# Altium footprint library TerminalBlock_Phoenix.PcbLib: 126 footprints (part 5 of 8)
Each footprint in its own frame and in the unit in brackets; x right, y up, seen from the top. Pads: shape width x height; smd on the part's side, far side on the other; paste and mask are expansions set on the pad; w line width, h text height; cw(c..) or ccw(c..) is an arc to the next point about the centre after c.
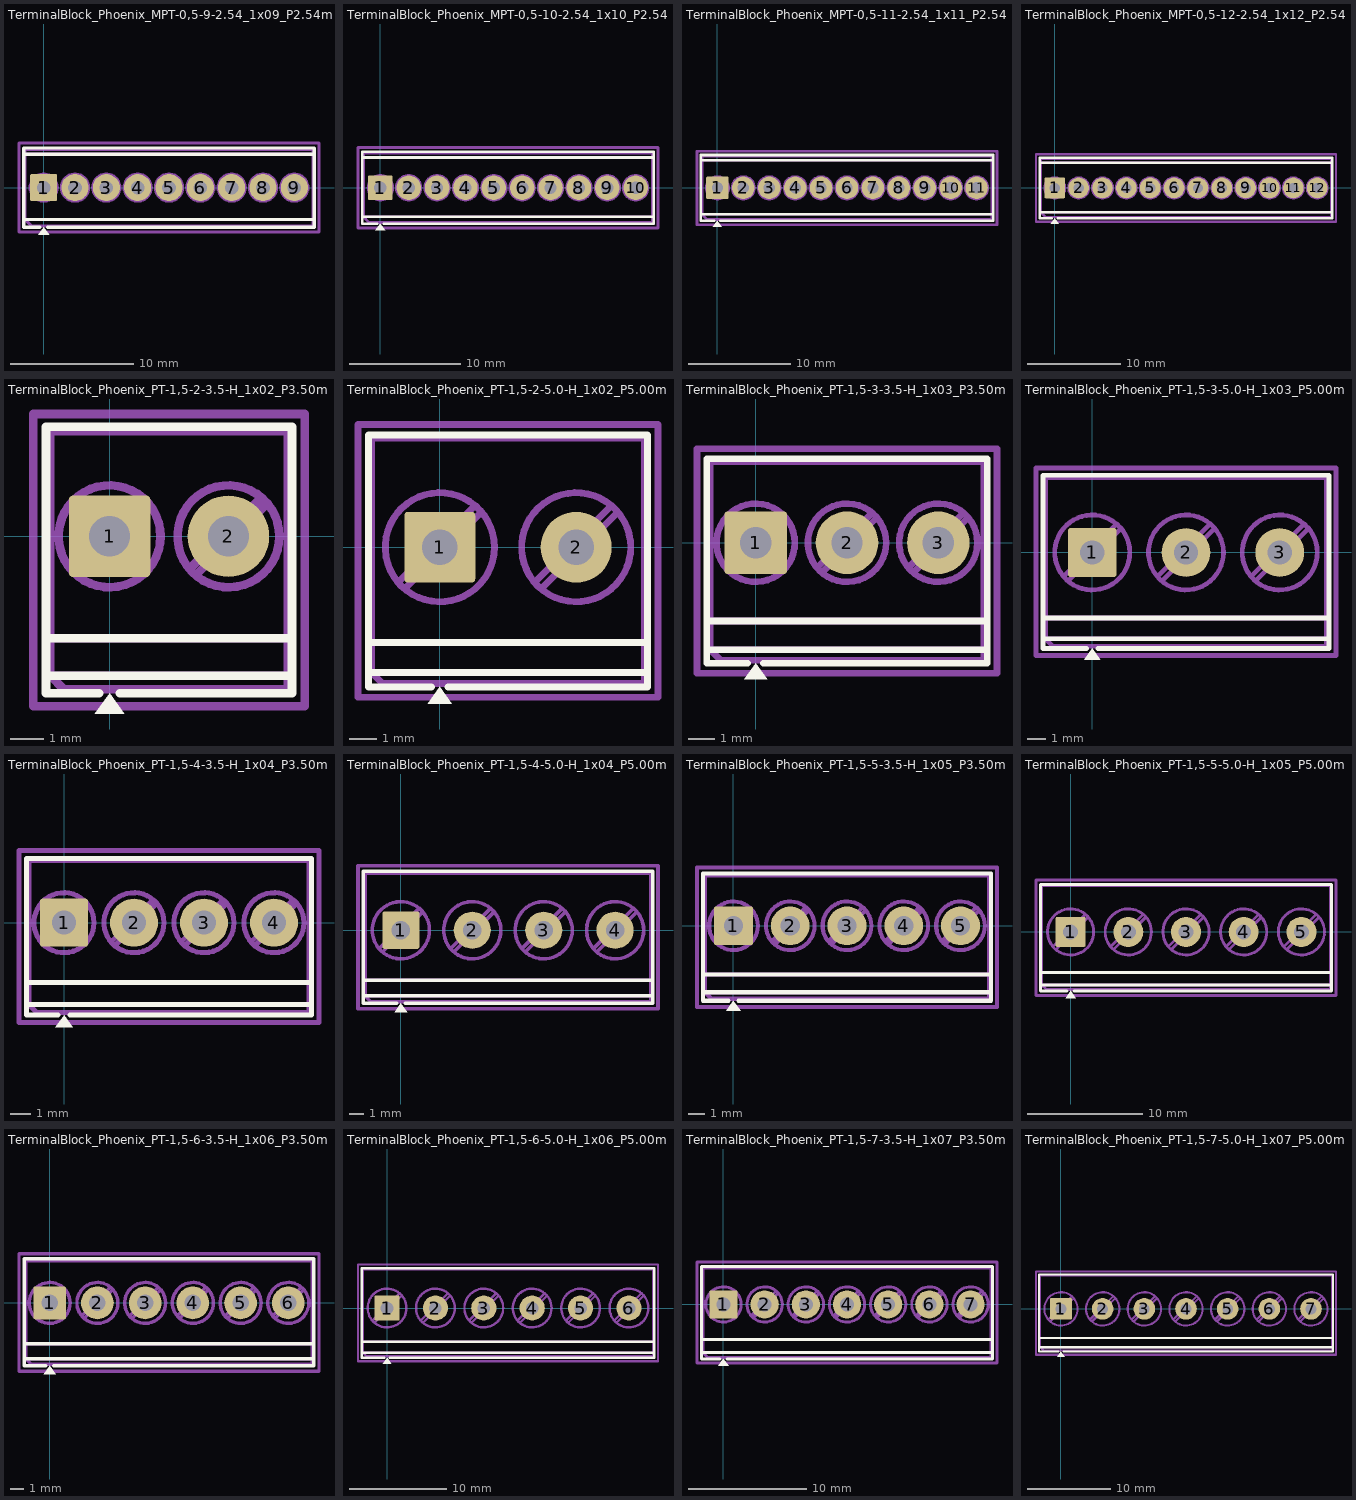
[diagram p4: the footprints below, top view; thin cyan lines are the x and y axes]

## TerminalBlock_Phoenix_MPT-0,5-9-2.54_1x09_P2.54mm_Horizontal [mm]
pads (9):
  rrect11% 2.2x2.2 hole 1.1: 1(0,0)
  round 2.2 hole 1.1: 2(2.54,0) 3(5.08,0) 4(7.62,0) 5(10.16,0) 6(12.7,0) 7(15.24,0) 8(17.78,0) 9(20.32,0)
F.SilkS:
  region: 0.44,-3.83 -0.44,-3.83 0,-3.22
  lines w0.254: -1.62,-2.6 21.94,-2.6 ; -1.62,2.7 21.94,2.7 ; -0.3,-3.22 -1.62,-3.22 -1.62,3.22 21.94,3.22 21.94,-3.22 0.3,-3.22
F.Fab:
  circle w0.254: c0,0 r1.1
  circle w0.254: c2.54,0 r1.1
  circle w0.254: c5.08,0 r1.1
  circle w0.254: c7.62,0 r1.1
  circle w0.254: c10.16,0 r1.1
  circle w0.254: c12.7,0 r1.1
  circle w0.254: c15.24,0 r1.1
  circle w0.254: c17.78,0 r1.1
  circle w0.254: c20.32,0 r1.1
  lines w0.254: -1.5,2.7 21.82,2.7 ; -0.834,-0.7 0.7,0.834 ; -0.7,-0.834 0.834,0.7 ; 1.706,-0.7 3.24,0.834 ; 1.84,-0.834 3.374,0.7 ; 4.246,-0.7 5.78,0.834 ; 4.38,-0.834 5.914,0.7 ; 6.786,-0.7 8.32,0.834 ; 6.92,-0.834 8.454,0.7 ; 9.326,-0.7 10.86,0.834 ; 9.46,-0.834 10.994,0.7 ; 11.866,-0.7 13.4,0.834 ; 12,-0.834 13.534,0.7 ; 14.406,-0.7 15.94,0.834 ; 14.54,-0.834 16.074,0.7 ; 16.946,-0.7 18.48,0.834 ; 17.08,-0.834 18.614,0.7 ; 19.486,-0.7 21.02,0.834 ; 19.62,-0.834 21.154,0.7 ; 21.82,-2.6 -1.5,-2.6 ; -1.5,-2.6 -1.5,3.1 21.82,3.1 21.82,-3.1 -1,-3.1 -1.5,-2.6
  text "'.Designator'" at 6.113,-2.84 h1
F.CrtYd:
  lines w0.254: -2,-3.6 -2,3.6 22.32,3.6 22.32,-3.6 -2,-3.6

## TerminalBlock_Phoenix_MPT-0,5-10-2.54_1x10_P2.54mm_Horizontal [mm]
pads (10):
  rrect11% 2.2x2.2 hole 1.1: 1(0,0)
  round 2.2 hole 1.1: 2(2.54,0) 3(5.08,0) 4(7.62,0) 5(10.16,0) 6(12.7,0) 7(15.24,0) 8(17.78,0) 9(20.32,0) 10(22.86,0)
F.SilkS:
  region: 0.44,-3.83 -0.44,-3.83 0,-3.22
  lines w0.254: -1.62,-2.6 24.48,-2.6 ; -1.62,2.7 24.48,2.7 ; -0.3,-3.22 -1.62,-3.22 -1.62,3.22 24.48,3.22 24.48,-3.22 0.3,-3.22
F.Fab:
  circle w0.254: c0,0 r1.1
  circle w0.254: c2.54,0 r1.1
  circle w0.254: c5.08,0 r1.1
  circle w0.254: c7.62,0 r1.1
  circle w0.254: c10.16,0 r1.1
  circle w0.254: c12.7,0 r1.1
  circle w0.254: c15.24,0 r1.1
  circle w0.254: c17.78,0 r1.1
  circle w0.254: c20.32,0 r1.1
  circle w0.254: c22.86,0 r1.1
  lines w0.254: -1.5,2.7 24.36,2.7 ; -0.834,-0.7 0.7,0.834 ; -0.7,-0.834 0.834,0.7 ; 1.706,-0.7 3.24,0.834 ; 1.84,-0.834 3.374,0.7 ; 4.246,-0.7 5.78,0.834 ; 4.38,-0.834 5.914,0.7 ; 6.786,-0.7 8.32,0.834 ; 6.92,-0.834 8.454,0.7 ; 9.326,-0.7 10.86,0.834 ; 9.46,-0.834 10.994,0.7 ; 11.866,-0.7 13.4,0.834 ; 12,-0.834 13.534,0.7 ; 14.406,-0.7 15.94,0.834 ; 14.54,-0.834 16.074,0.7 ; 16.946,-0.7 18.48,0.834 ; 17.08,-0.834 18.614,0.7 ; 19.486,-0.7 21.02,0.834 ; 19.62,-0.834 21.154,0.7 ; 22.026,-0.7 23.56,0.834 ; 22.16,-0.834 23.694,0.7 ; 24.36,-2.6 -1.5,-2.6 ; -1.5,-2.6 -1.5,3.1 24.36,3.1 24.36,-3.1 -1,-3.1 -1.5,-2.6
  text "'.Designator'" at 7.383,-2.84 h1
F.CrtYd:
  lines w0.254: -2,-3.6 -2,3.6 24.86,3.6 24.86,-3.6 -2,-3.6

## TerminalBlock_Phoenix_MPT-0,5-11-2.54_1x11_P2.54mm_Horizontal [mm]
pads (11):
  rrect11% 2.2x2.2 hole 1.1: 1(0,0)
  round 2.2 hole 1.1: 2(2.54,0) 3(5.08,0) 4(7.62,0) 5(10.16,0) 6(12.7,0) 7(15.24,0) 8(17.78,0) 9(20.32,0) 10(22.86,0) 11(25.4,0)
F.SilkS:
  region: 0.44,-3.83 -0.44,-3.83 0,-3.22
  lines w0.254: -1.62,-2.6 27.02,-2.6 ; -1.62,2.7 27.02,2.7 ; -0.3,-3.22 -1.62,-3.22 -1.62,3.22 27.02,3.22 27.02,-3.22 0.3,-3.22
F.Fab:
  circle w0.254: c0,0 r1.1
  circle w0.254: c2.54,0 r1.1
  circle w0.254: c5.08,0 r1.1
  circle w0.254: c7.62,0 r1.1
  circle w0.254: c10.16,0 r1.1
  circle w0.254: c12.7,0 r1.1
  circle w0.254: c15.24,0 r1.1
  circle w0.254: c17.78,0 r1.1
  circle w0.254: c20.32,0 r1.1
  circle w0.254: c22.86,0 r1.1
  circle w0.254: c25.4,0 r1.1
  lines w0.254: -1.5,2.7 26.9,2.7 ; -0.834,-0.7 0.7,0.834 ; -0.7,-0.834 0.834,0.7 ; 1.706,-0.7 3.24,0.834 ; 1.84,-0.834 3.374,0.7 ; 4.246,-0.7 5.78,0.834 ; 4.38,-0.834 5.914,0.7 ; 6.786,-0.7 8.32,0.834 ; 6.92,-0.834 8.454,0.7 ; 9.326,-0.7 10.86,0.834 ; 9.46,-0.834 10.994,0.7 ; 11.866,-0.7 13.4,0.834 ; 12,-0.834 13.534,0.7 ; 14.406,-0.7 15.94,0.834 ; 14.54,-0.834 16.074,0.7 ; 16.946,-0.7 18.48,0.834 ; 17.08,-0.834 18.614,0.7 ; 19.486,-0.7 21.02,0.834 ; 19.62,-0.834 21.154,0.7 ; 22.026,-0.7 23.56,0.834 ; 22.16,-0.834 23.694,0.7 ; 24.566,-0.7 26.1,0.834 ; 24.7,-0.834 26.234,0.7 ; 26.9,-2.6 -1.5,-2.6 ; -1.5,-2.6 -1.5,3.1 26.9,3.1 26.9,-3.1 -1,-3.1 -1.5,-2.6
  text "'.Designator'" at 8.653,-2.84 h1
F.CrtYd:
  lines w0.254: -2,-3.6 -2,3.6 27.4,3.6 27.4,-3.6 -2,-3.6

## TerminalBlock_Phoenix_MPT-0,5-12-2.54_1x12_P2.54mm_Horizontal [mm]
pads (12):
  rrect11% 2.2x2.2 hole 1.1: 1(0,0)
  round 2.2 hole 1.1: 2(2.54,0) 3(5.08,0) 4(7.62,0) 5(10.16,0) 6(12.7,0) 7(15.24,0) 8(17.78,0) 9(20.32,0) 10(22.86,0) 11(25.4,0) 12(27.94,0)
F.SilkS:
  region: 0.44,-3.83 -0.44,-3.83 0,-3.22
  lines w0.254: -1.62,-2.6 29.56,-2.6 ; -1.62,2.7 29.56,2.7 ; -0.3,-3.22 -1.62,-3.22 -1.62,3.22 29.56,3.22 29.56,-3.22 0.3,-3.22
F.Fab:
  circle w0.254: c0,0 r1.1
  circle w0.254: c2.54,0 r1.1
  circle w0.254: c5.08,0 r1.1
  circle w0.254: c7.62,0 r1.1
  circle w0.254: c10.16,0 r1.1
  circle w0.254: c12.7,0 r1.1
  circle w0.254: c15.24,0 r1.1
  circle w0.254: c17.78,0 r1.1
  circle w0.254: c20.32,0 r1.1
  circle w0.254: c22.86,0 r1.1
  circle w0.254: c25.4,0 r1.1
  circle w0.254: c27.94,0 r1.1
  lines w0.254: -1.5,2.7 29.44,2.7 ; -0.834,-0.7 0.7,0.834 ; -0.7,-0.834 0.834,0.7 ; 1.706,-0.7 3.24,0.834 ; 1.84,-0.834 3.374,0.7 ; 4.246,-0.7 5.78,0.834 ; 4.38,-0.834 5.914,0.7 ; 6.786,-0.7 8.32,0.834 ; 6.92,-0.834 8.454,0.7 ; 9.326,-0.7 10.86,0.834 ; 9.46,-0.834 10.994,0.7 ; 11.866,-0.7 13.4,0.834 ; 12,-0.834 13.534,0.7 ; 14.406,-0.7 15.94,0.834 ; 14.54,-0.834 16.074,0.7 ; 16.946,-0.7 18.48,0.834 ; 17.08,-0.834 18.614,0.7 ; 19.486,-0.7 21.02,0.834 ; 19.62,-0.834 21.154,0.7 ; 22.026,-0.7 23.56,0.834 ; 22.16,-0.834 23.694,0.7 ; 24.566,-0.7 26.1,0.834 ; 24.7,-0.834 26.234,0.7 ; 27.106,-0.7 28.64,0.834 ; 27.24,-0.834 28.774,0.7 ; 29.44,-2.6 -1.5,-2.6 ; -1.5,-2.6 -1.5,3.1 29.44,3.1 29.44,-3.1 -1,-3.1 -1.5,-2.6
  text "'.Designator'" at 9.923,-2.84 h1
F.CrtYd:
  lines w0.254: -2,-3.6 -2,3.6 29.94,3.6 29.94,-3.6 -2,-3.6

## TerminalBlock_Phoenix_PT-1,5-2-3.5-H_1x02_P3.50mm_Horizontal [mm]
pads (2):
  rrect10% 2.4x2.4 hole 1.2: 1(0,0)
  round 2.4 hole 1.2: 2(3.5,0)
F.SilkS:
  region: 0.44,-5.23 -0.44,-5.23 0,-4.62
  lines w0.254: -1.87,-4.1 5.37,-4.1 ; -1.87,-3 5.37,-3 ; -0.3,-4.62 -1.87,-4.62 -1.87,3.22 5.37,3.22 5.37,-4.62 0.3,-4.62
F.Fab:
  circle w0.254: c0,0 r1.5
  circle w0.254: c3.5,0 r1.5
  lines w0.254: -1.75,-3 5.25,-3 ; -1.138,-0.955 0.955,1.138 ; -0.955,-1.138 1.138,0.955 ; 2.362,-0.955 4.455,1.138 ; 2.545,-1.138 4.638,0.955 ; 5.25,-4.1 -1.75,-4.1 ; -1.75,-4.1 -1.75,3.1 5.25,3.1 5.25,-4.5 -1.35,-4.5 -1.75,-4.1
  text "'.Designator'" at -2.297,-3.24 h1
F.CrtYd:
  lines w0.254: -2.25,-5 -2.25,3.6 5.75,3.6 5.75,-5 -2.25,-5

## TerminalBlock_Phoenix_PT-1,5-2-5.0-H_1x02_P5.00mm_Horizontal [mm]
pads (2):
  rrect10% 2.6x2.6 hole 1.3: 1(0,0)
  round 2.6 hole 1.3: 2(5,0)
F.SilkS:
  region: 0.44,-5.73 -0.44,-5.73 0,-5.12
  lines w0.254: -2.62,-4.6 7.62,-4.6 ; -2.62,-3.5 7.62,-3.5 ; -0.3,-5.12 -2.62,-5.12 -2.62,4.12 7.62,4.12 7.62,-5.12 0.3,-5.12
F.Fab:
  circle w0.254: c0,0 r2
  circle w0.254: c5,0 r2
  lines w0.254: -2.5,-3.5 7.5,-3.5 ; -1.517,-1.273 1.273,1.517 ; -1.273,-1.517 1.517,1.273 ; 3.483,-1.273 6.273,1.517 ; 3.727,-1.517 6.517,1.273 ; 7.5,-4.6 -2.5,-4.6 ; -2.5,-4.6 -2.5,4 7.5,4 7.5,-5 -2.1,-5 -2.5,-4.6
  text "'.Designator'" at -1.547,-3.74 h1
F.CrtYd:
  lines w0.254: -3,-5.5 -3,4.5 8,4.5 8,-5.5 -3,-5.5

## TerminalBlock_Phoenix_PT-1,5-3-3.5-H_1x03_P3.50mm_Horizontal [mm]
pads (3):
  rrect10% 2.4x2.4 hole 1.2: 1(0,0)
  round 2.4 hole 1.2: 2(3.5,0) 3(7,0)
F.SilkS:
  region: 0.44,-5.23 -0.44,-5.23 0,-4.62
  lines w0.254: -1.87,-4.1 8.87,-4.1 ; -1.87,-3 8.87,-3 ; -0.3,-4.62 -1.87,-4.62 -1.87,3.22 8.87,3.22 8.87,-4.62 0.3,-4.62
F.Fab:
  circle w0.254: c0,0 r1.5
  circle w0.254: c3.5,0 r1.5
  circle w0.254: c7,0 r1.5
  lines w0.254: -1.75,-3 8.75,-3 ; -1.138,-0.955 0.955,1.138 ; -0.955,-1.138 1.138,0.955 ; 2.362,-0.955 4.455,1.138 ; 2.545,-1.138 4.638,0.955 ; 5.862,-0.955 7.955,1.138 ; 6.045,-1.138 8.138,0.955 ; 8.75,-4.1 -1.75,-4.1 ; -1.75,-4.1 -1.75,3.1 8.75,3.1 8.75,-4.5 -1.35,-4.5 -1.75,-4.1
  text "'.Designator'" at -0.547,-3.24 h1
F.CrtYd:
  lines w0.254: -2.25,-5 -2.25,3.6 9.25,3.6 9.25,-5 -2.25,-5

## TerminalBlock_Phoenix_PT-1,5-3-5.0-H_1x03_P5.00mm_Horizontal [mm]
pads (3):
  rrect10% 2.6x2.6 hole 1.3: 1(0,0)
  round 2.6 hole 1.3: 2(5,0) 3(10,0)
F.SilkS:
  region: 0.44,-5.73 -0.44,-5.73 0,-5.12
  lines w0.254: -2.62,-4.6 12.62,-4.6 ; -2.62,-3.5 12.62,-3.5 ; -0.3,-5.12 -2.62,-5.12 -2.62,4.12 12.62,4.12 12.62,-5.12 0.3,-5.12
F.Fab:
  circle w0.254: c0,0 r2
  circle w0.254: c5,0 r2
  circle w0.254: c10,0 r2
  lines w0.254: -2.5,-3.5 12.5,-3.5 ; -1.517,-1.273 1.273,1.517 ; -1.273,-1.517 1.517,1.273 ; 3.483,-1.273 6.273,1.517 ; 3.727,-1.517 6.517,1.273 ; 8.483,-1.273 11.273,1.517 ; 8.727,-1.517 11.517,1.273 ; 12.5,-4.6 -2.5,-4.6 ; -2.5,-4.6 -2.5,4 12.5,4 12.5,-5 -2.1,-5 -2.5,-4.6
  text "'.Designator'" at 0.953,-3.74 h1
F.CrtYd:
  lines w0.254: -3,-5.5 -3,4.5 13,4.5 13,-5.5 -3,-5.5

## TerminalBlock_Phoenix_PT-1,5-4-3.5-H_1x04_P3.50mm_Horizontal [mm]
pads (4):
  rrect10% 2.4x2.4 hole 1.2: 1(0,0)
  round 2.4 hole 1.2: 2(3.5,0) 3(7,0) 4(10.5,0)
F.SilkS:
  region: 0.44,-5.23 -0.44,-5.23 0,-4.62
  lines w0.254: -1.87,-4.1 12.37,-4.1 ; -1.87,-3 12.37,-3 ; -0.3,-4.62 -1.87,-4.62 -1.87,3.22 12.37,3.22 12.37,-4.62 0.3,-4.62
F.Fab:
  circle w0.254: c0,0 r1.5
  circle w0.254: c3.5,0 r1.5
  circle w0.254: c7,0 r1.5
  circle w0.254: c10.5,0 r1.5
  lines w0.254: -1.75,-3 12.25,-3 ; -1.138,-0.955 0.955,1.138 ; -0.955,-1.138 1.138,0.955 ; 2.362,-0.955 4.455,1.138 ; 2.545,-1.138 4.638,0.955 ; 5.862,-0.955 7.955,1.138 ; 6.045,-1.138 8.138,0.955 ; 9.362,-0.955 11.455,1.138 ; 9.545,-1.138 11.638,0.955 ; 12.25,-4.1 -1.75,-4.1 ; -1.75,-4.1 -1.75,3.1 12.25,3.1 12.25,-4.5 -1.35,-4.5 -1.75,-4.1
  text "'.Designator'" at 1.203,-3.24 h1
F.CrtYd:
  lines w0.254: -2.25,-5 -2.25,3.6 12.75,3.6 12.75,-5 -2.25,-5

## TerminalBlock_Phoenix_PT-1,5-4-5.0-H_1x04_P5.00mm_Horizontal [mm]
pads (4):
  rrect10% 2.6x2.6 hole 1.3: 1(0,0)
  round 2.6 hole 1.3: 2(5,0) 3(10,0) 4(15,0)
F.SilkS:
  region: 0.44,-5.73 -0.44,-5.73 0,-5.12
  lines w0.254: -2.62,-4.6 17.62,-4.6 ; -2.62,-3.5 17.62,-3.5 ; -0.3,-5.12 -2.62,-5.12 -2.62,4.12 17.62,4.12 17.62,-5.12 0.3,-5.12
F.Fab:
  circle w0.254: c0,0 r2
  circle w0.254: c5,0 r2
  circle w0.254: c10,0 r2
  circle w0.254: c15,0 r2
  lines w0.254: -2.5,-3.5 17.5,-3.5 ; -1.517,-1.273 1.273,1.517 ; -1.273,-1.517 1.517,1.273 ; 3.483,-1.273 6.273,1.517 ; 3.727,-1.517 6.517,1.273 ; 8.483,-1.273 11.273,1.517 ; 8.727,-1.517 11.517,1.273 ; 13.483,-1.273 16.273,1.517 ; 13.727,-1.517 16.517,1.273 ; 17.5,-4.6 -2.5,-4.6 ; -2.5,-4.6 -2.5,4 17.5,4 17.5,-5 -2.1,-5 -2.5,-4.6
  text "'.Designator'" at 3.453,-3.74 h1
F.CrtYd:
  lines w0.254: -3,-5.5 -3,4.5 18,4.5 18,-5.5 -3,-5.5

## TerminalBlock_Phoenix_PT-1,5-5-3.5-H_1x05_P3.50mm_Horizontal [mm]
pads (5):
  rrect10% 2.4x2.4 hole 1.2: 1(0,0)
  round 2.4 hole 1.2: 2(3.5,0) 3(7,0) 4(10.5,0) 5(14,0)
F.SilkS:
  region: 0.44,-5.23 -0.44,-5.23 0,-4.62
  lines w0.254: -1.87,-4.1 15.87,-4.1 ; -1.87,-3 15.87,-3 ; -0.3,-4.62 -1.87,-4.62 -1.87,3.22 15.87,3.22 15.87,-4.62 0.3,-4.62
F.Fab:
  circle w0.254: c0,0 r1.5
  circle w0.254: c3.5,0 r1.5
  circle w0.254: c7,0 r1.5
  circle w0.254: c10.5,0 r1.5
  circle w0.254: c14,0 r1.5
  lines w0.254: -1.75,-3 15.75,-3 ; -1.138,-0.955 0.955,1.138 ; -0.955,-1.138 1.138,0.955 ; 2.362,-0.955 4.455,1.138 ; 2.545,-1.138 4.638,0.955 ; 5.862,-0.955 7.955,1.138 ; 6.045,-1.138 8.138,0.955 ; 9.362,-0.955 11.455,1.138 ; 9.545,-1.138 11.638,0.955 ; 12.862,-0.955 14.955,1.138 ; 13.045,-1.138 15.138,0.955 ; 15.75,-4.1 -1.75,-4.1 ; -1.75,-4.1 -1.75,3.1 15.75,3.1 15.75,-4.5 -1.35,-4.5 -1.75,-4.1
  text "'.Designator'" at 2.953,-3.24 h1
F.CrtYd:
  lines w0.254: -2.25,-5 -2.25,3.6 16.25,3.6 16.25,-5 -2.25,-5

## TerminalBlock_Phoenix_PT-1,5-5-5.0-H_1x05_P5.00mm_Horizontal [mm]
pads (5):
  rrect10% 2.6x2.6 hole 1.3: 1(0,0)
  round 2.6 hole 1.3: 2(5,0) 3(10,0) 4(15,0) 5(20,0)
F.SilkS:
  region: 0.44,-5.73 -0.44,-5.73 0,-5.12
  lines w0.254: -2.62,-4.6 22.62,-4.6 ; -2.62,-3.5 22.62,-3.5 ; -0.3,-5.12 -2.62,-5.12 -2.62,4.12 22.62,4.12 22.62,-5.12 0.3,-5.12
F.Fab:
  circle w0.254: c0,0 r2
  circle w0.254: c5,0 r2
  circle w0.254: c10,0 r2
  circle w0.254: c15,0 r2
  circle w0.254: c20,0 r2
  lines w0.254: -2.5,-3.5 22.5,-3.5 ; -1.517,-1.273 1.273,1.517 ; -1.273,-1.517 1.517,1.273 ; 3.483,-1.273 6.273,1.517 ; 3.727,-1.517 6.517,1.273 ; 8.483,-1.273 11.273,1.517 ; 8.727,-1.517 11.517,1.273 ; 13.483,-1.273 16.273,1.517 ; 13.727,-1.517 16.517,1.273 ; 18.483,-1.273 21.273,1.517 ; 18.727,-1.517 21.517,1.273 ; 22.5,-4.6 -2.5,-4.6 ; -2.5,-4.6 -2.5,4 22.5,4 22.5,-5 -2.1,-5 -2.5,-4.6
  text "'.Designator'" at 5.953,-3.74 h1
F.CrtYd:
  lines w0.254: -3,-5.5 -3,4.5 23,4.5 23,-5.5 -3,-5.5

## TerminalBlock_Phoenix_PT-1,5-6-3.5-H_1x06_P3.50mm_Horizontal [mm]
pads (6):
  rrect10% 2.4x2.4 hole 1.2: 1(0,0)
  round 2.4 hole 1.2: 2(3.5,0) 3(7,0) 4(10.5,0) 5(14,0) 6(17.5,0)
F.SilkS:
  region: 0.44,-5.23 -0.44,-5.23 0,-4.62
  lines w0.254: -1.87,-4.1 19.37,-4.1 ; -1.87,-3 19.37,-3 ; -0.3,-4.62 -1.87,-4.62 -1.87,3.22 19.37,3.22 19.37,-4.62 0.3,-4.62
F.Fab:
  circle w0.254: c0,0 r1.5
  circle w0.254: c3.5,0 r1.5
  circle w0.254: c7,0 r1.5
  circle w0.254: c10.5,0 r1.5
  circle w0.254: c14,0 r1.5
  circle w0.254: c17.5,0 r1.5
  lines w0.254: -1.75,-3 19.25,-3 ; -1.138,-0.955 0.955,1.138 ; -0.955,-1.138 1.138,0.955 ; 2.362,-0.955 4.455,1.138 ; 2.545,-1.138 4.638,0.955 ; 5.862,-0.955 7.955,1.138 ; 6.045,-1.138 8.138,0.955 ; 9.362,-0.955 11.455,1.138 ; 9.545,-1.138 11.638,0.955 ; 12.862,-0.955 14.955,1.138 ; 13.045,-1.138 15.138,0.955 ; 16.362,-0.955 18.455,1.138 ; 16.545,-1.138 18.638,0.955 ; 19.25,-4.1 -1.75,-4.1 ; -1.75,-4.1 -1.75,3.1 19.25,3.1 19.25,-4.5 -1.35,-4.5 -1.75,-4.1
  text "'.Designator'" at 4.703,-3.24 h1
F.CrtYd:
  lines w0.254: -2.25,-5 -2.25,3.6 19.75,3.6 19.75,-5 -2.25,-5

## TerminalBlock_Phoenix_PT-1,5-6-5.0-H_1x06_P5.00mm_Horizontal [mm]
pads (6):
  rrect10% 2.6x2.6 hole 1.3: 1(0,0)
  round 2.6 hole 1.3: 2(5,0) 3(10,0) 4(15,0) 5(20,0) 6(25,0)
F.SilkS:
  region: 0.44,-5.73 -0.44,-5.73 0,-5.12
  lines w0.254: -2.62,-4.6 27.62,-4.6 ; -2.62,-3.5 27.62,-3.5 ; -0.3,-5.12 -2.62,-5.12 -2.62,4.12 27.62,4.12 27.62,-5.12 0.3,-5.12
F.Fab:
  circle w0.254: c0,0 r2
  circle w0.254: c5,0 r2
  circle w0.254: c10,0 r2
  circle w0.254: c15,0 r2
  circle w0.254: c20,0 r2
  circle w0.254: c25,0 r2
  lines w0.254: -2.5,-3.5 27.5,-3.5 ; -1.517,-1.273 1.273,1.517 ; -1.273,-1.517 1.517,1.273 ; 3.483,-1.273 6.273,1.517 ; 3.727,-1.517 6.517,1.273 ; 8.483,-1.273 11.273,1.517 ; 8.727,-1.517 11.517,1.273 ; 13.483,-1.273 16.273,1.517 ; 13.727,-1.517 16.517,1.273 ; 18.483,-1.273 21.273,1.517 ; 18.727,-1.517 21.517,1.273 ; 23.483,-1.273 26.273,1.517 ; 23.727,-1.517 26.517,1.273 ; 27.5,-4.6 -2.5,-4.6 ; -2.5,-4.6 -2.5,4 27.5,4 27.5,-5 -2.1,-5 -2.5,-4.6
  text "'.Designator'" at 8.453,-3.74 h1
F.CrtYd:
  lines w0.254: -3,-5.5 -3,4.5 28,4.5 28,-5.5 -3,-5.5

## TerminalBlock_Phoenix_PT-1,5-7-3.5-H_1x07_P3.50mm_Horizontal [mm]
pads (7):
  rrect10% 2.4x2.4 hole 1.2: 1(0,0)
  round 2.4 hole 1.2: 2(3.5,0) 3(7,0) 4(10.5,0) 5(14,0) 6(17.5,0) 7(21,0)
F.SilkS:
  region: 0.44,-5.23 -0.44,-5.23 0,-4.62
  lines w0.254: -1.87,-4.1 22.87,-4.1 ; -1.87,-3 22.87,-3 ; -0.3,-4.62 -1.87,-4.62 -1.87,3.22 22.87,3.22 22.87,-4.62 0.3,-4.62
F.Fab:
  circle w0.254: c0,0 r1.5
  circle w0.254: c3.5,0 r1.5
  circle w0.254: c7,0 r1.5
  circle w0.254: c10.5,0 r1.5
  circle w0.254: c14,0 r1.5
  circle w0.254: c17.5,0 r1.5
  circle w0.254: c21,0 r1.5
  lines w0.254: -1.75,-3 22.75,-3 ; -1.138,-0.955 0.955,1.138 ; -0.955,-1.138 1.138,0.955 ; 2.362,-0.955 4.455,1.138 ; 2.545,-1.138 4.638,0.955 ; 5.862,-0.955 7.955,1.138 ; 6.045,-1.138 8.138,0.955 ; 9.362,-0.955 11.455,1.138 ; 9.545,-1.138 11.638,0.955 ; 12.862,-0.955 14.955,1.138 ; 13.045,-1.138 15.138,0.955 ; 16.362,-0.955 18.455,1.138 ; 16.545,-1.138 18.638,0.955 ; 19.862,-0.955 21.955,1.138 ; 20.045,-1.138 22.138,0.955 ; 22.75,-4.1 -1.75,-4.1 ; -1.75,-4.1 -1.75,3.1 22.75,3.1 22.75,-4.5 -1.35,-4.5 -1.75,-4.1
  text "'.Designator'" at 6.453,-3.24 h1
F.CrtYd:
  lines w0.254: -2.25,-5 -2.25,3.6 23.25,3.6 23.25,-5 -2.25,-5

## TerminalBlock_Phoenix_PT-1,5-7-5.0-H_1x07_P5.00mm_Horizontal [mm]
pads (7):
  rrect10% 2.6x2.6 hole 1.3: 1(0,0)
  round 2.6 hole 1.3: 2(5,0) 3(10,0) 4(15,0) 5(20,0) 6(25,0) 7(30,0)
F.SilkS:
  region: 0.44,-5.73 -0.44,-5.73 0,-5.12
  lines w0.254: -2.62,-4.6 32.62,-4.6 ; -2.62,-3.5 32.62,-3.5 ; -0.3,-5.12 -2.62,-5.12 -2.62,4.12 32.62,4.12 32.62,-5.12 0.3,-5.12
F.Fab:
  circle w0.254: c0,0 r2
  circle w0.254: c5,0 r2
  circle w0.254: c10,0 r2
  circle w0.254: c15,0 r2
  circle w0.254: c20,0 r2
  circle w0.254: c25,0 r2
  circle w0.254: c30,0 r2
  lines w0.254: -2.5,-3.5 32.5,-3.5 ; -1.517,-1.273 1.273,1.517 ; -1.273,-1.517 1.517,1.273 ; 3.483,-1.273 6.273,1.517 ; 3.727,-1.517 6.517,1.273 ; 8.483,-1.273 11.273,1.517 ; 8.727,-1.517 11.517,1.273 ; 13.483,-1.273 16.273,1.517 ; 13.727,-1.517 16.517,1.273 ; 18.483,-1.273 21.273,1.517 ; 18.727,-1.517 21.517,1.273 ; 23.483,-1.273 26.273,1.517 ; 23.727,-1.517 26.517,1.273 ; 28.483,-1.273 31.273,1.517 ; 28.727,-1.517 31.517,1.273 ; 32.5,-4.6 -2.5,-4.6 ; -2.5,-4.6 -2.5,4 32.5,4 32.5,-5 -2.1,-5 -2.5,-4.6
  text "'.Designator'" at 10.953,-3.74 h1
F.CrtYd:
  lines w0.254: -3,-5.5 -3,4.5 33,4.5 33,-5.5 -3,-5.5